# EAGLE library part MC34063A (library iStivi - ICs)
MC34063A 1.5A Step-Up/Down/Inverting Switching Regulator.
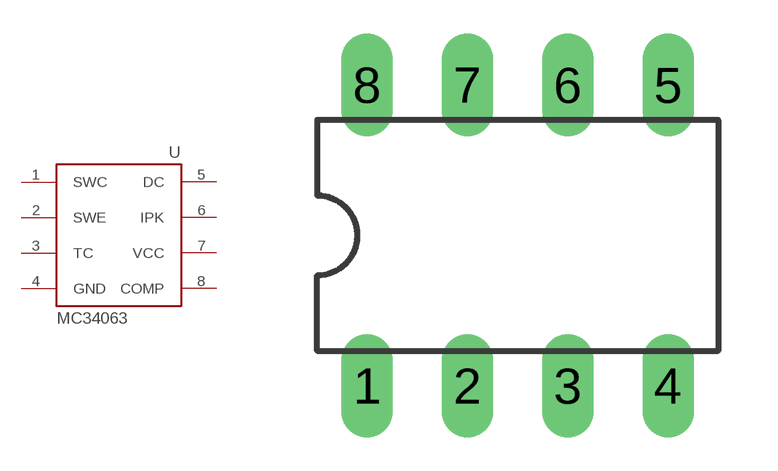
[diagram p12: symbol with the pads of DIL08; footprint DIL08]

Designator prefix -

## MC34063A  [DIL08]
1  SWC  in
2  SWE  in
3  TC  in
4  GND  pwr
5  DC  in
6  IPK
7  VCC  pwr
8  COMP  in

## Footprint DIL08 (pad centres in mm)
Dual In Line Package
drill 0.8 long: 1 -3.81,-3.81; 2 -1.27,-3.81; 3 1.27,-3.81; 4 3.81,-3.81; 5 3.81,3.81; 6 1.27,3.81; 7 -1.27,3.81; 8 -3.81,3.81